# Altium footprint library SPTSquidBoardRev8.PcbLib: 11 footprints
Each footprint in its own frame and in the unit in brackets; x right, y up, seen from the top. Pads: shape width x height; smd on the part's side, far side on the other; paste and mask are expansions set on the pad; w line width, h text height; cw(c..) or ccw(c..) is an arc to the next point about the centre after c.
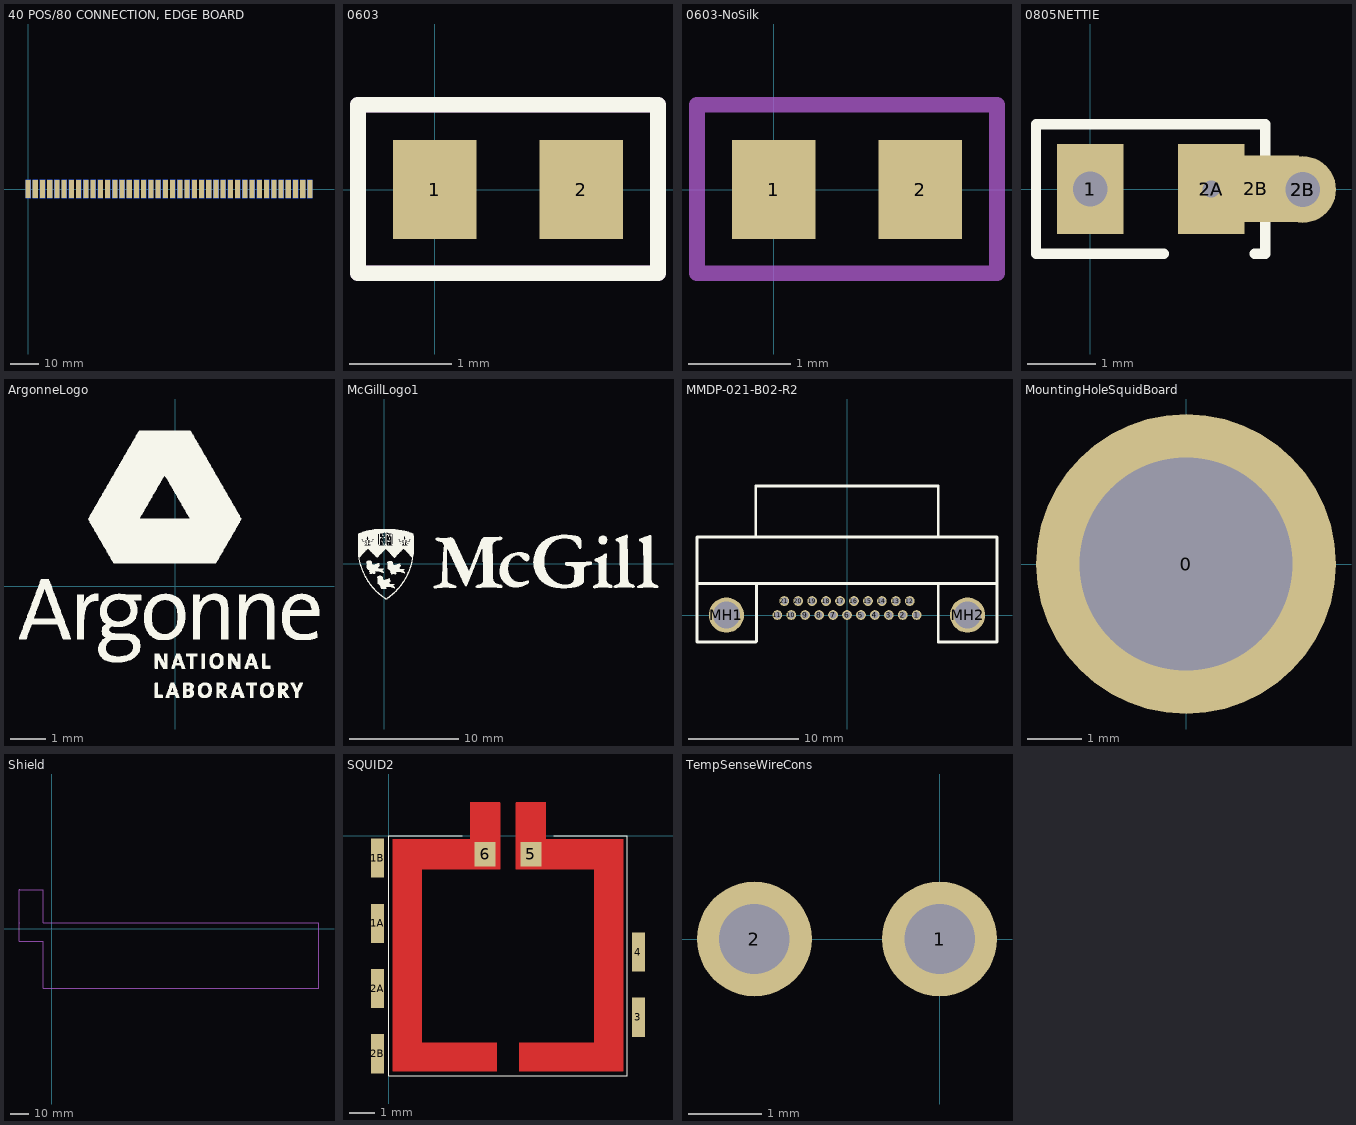
[diagram p0: the footprints below, top view; thin cyan lines are the x and y axes]

## 40 POS/80 CONNECTION, EDGE BOARD [mil]
pads (80):
  rect 70x250 smd far side paste-400: 1A(3900,0) 2A(3800,0) 3A(3700,0) 4A(3600,0) 5A(3500,0) 6A(3400,0) 7A(3300,0) 8A(3200,0) 9A(3100,0) 10A(3000,0) 11A(2900,0) 12A(2800,0) 13A(2700,0) 14A(2600,0) 15A(2500,0) 16A(2400,0) 17A(2300,0) 18A(2200,0) 19A(2100,0) 20A(2000,0) 21A(1900,0) 22A(1800,0) 23A(1700,0) 24A(1600,0) 25A(1500,0) 26A(1400,0) 27A(1300,0) 28A(1200,0) 29A(1100,0) 30A(1000,0) 31A(900,0) 32A(800,0) 33A(700,0) 34A(600,0) 35A(500,0) 36A(400,0) 37A(300,0) 38A(200,0) 39A(100,0) 40A(0,0)
  rect 70x250 smd paste-400: 1B(3900,0) 2B(3800,0) 3B(3700,0) 4B(3600,0) 5B(3500,0) 6B(3400,0) 7B(3300,0) 8B(3200,0) 9B(3100,0) 10B(3000,0) 11B(2900,0) 12B(2800,0) 13B(2700,0) 14B(2600,0) 15B(2500,0) 16B(2400,0) 17B(2300,0) 18B(2200,0) 19B(2100,0) 20B(2000,0) 21B(1900,0) 22B(1800,0) 23B(1700,0) 24B(1600,0) 25B(1500,0) 26B(1400,0) 27B(1300,0) 28B(1200,0) 29B(1100,0) 30B(1000,0) 31B(900,0) 32B(800,0) 33B(700,0) 34B(600,0) 35B(500,0) 36B(400,0) 37B(300,0) 38B(200,0) 39B(100,0) 40B(0,0)
Mechanical 1:
  text "40 POS/80 CONNECTION, EDGE BOARD" at -795,-5 h22.5

## 0603 [mil]
pads (2):
  rect 32x38 smd: 1(0,0) 2(56,0)
Top Overlay:
  lines w6: -29.5,-32 85.5,-32 85.5,32.5 -29.5,32.5 -29.5,-32
Mechanical 1:
  lines w6: -29.5,-32 85.5,-32 85.5,32.5 -29.5,32.5 -29.5,-32

## 0603-NoSilk [mil]
pads (2):
  rect 32x38 smd: 1(0,0) 2(56,0)
Mechanical 1:
  lines w6: -29.5,-32 -29.5,32.5 85.5,32.5 85.5,-32 -29.5,-32

## 0805NETTIE [mil]
pads (7):
  round 35 hole 20 paste-10 mask-10: 1(0,0) 2B(122.92,-0.3)
  rect 38.5x52 smd: 1(0,0) 2A(70,0)
  round 20 hole 10 paste-10 mask-10: 2A(70,0)
  rect 50x38.5 smd paste-19.25 mask-19.25: 2B(95.91,0.04)
  round 38.5 smd paste-19.25 mask-19.25: 2B(122.92,-0.3)
Top Overlay:
  lines w6: 42.57,-37.5 -31.25,-37.5 -31.25,37.5 101.25,37.5 101.25,-37.5 95.19,-37.5

## ArgonneLogo [mil]
height 560
Top Overlay:
  drawing of 2632 lines, arcs and shapes, not listed

## McGillLogo1 [mil] "McGillLogo"
Top Overlay:
  drawing of 2700 lines, arcs and shapes, not listed

## MMDP-021-B02-R2 [mil] "Omnetrics21pinR2Tail"
pads (23):
  round 35 hole 25: 1(250,0) 2(200,0) 3(150,0) 4(100,0) 5(50,0) 6(0,0) 7(-50,0) 8(-100,0) 9(-150,0) 10(-200,0) 11(-250,0) 12(225,50) 13(175,50) 14(125,50) 15(75,50) 16(25,50) 17(-25,50) 18(-75,50) 19(-125,50) 20(-175,50) 21(-225,50)
  round 125.98 hole 96.06: MH1(-432.5,0) MH2(432.5,0)
Top Overlay:
  lines w1: -327.5,460.5 -325,463
  lines w10: -538,113 -325,113 ; -327.5,-97 -537.5,-97 -537.5,280 ; -327.5,460.5 -327.5,280 -537.5,280 ; -327.5,463 327.5,463 ; -325,-94.5 -325,113 ; 327.5,280 327.5,460.5 ; 538,113 327.5,113 ; -537.5,280 537.5,280 537.5,-97 327.5,-97 327.5,113 ; -325,113 327.5,113

## MountingHoleSquidBoard [mil]
pads (1):
  round 217 hole 154: 0(0,0)

## Shield [mil]
height 560
pads (11):
  round 20 on Mech1: 4(-680,-270) 4(-680,120) 4(-680,820) 4(-180,-1260) 4(-180,-270) 4(-180,120) 4(0,0) 4(0,120) 4(5620,-1260) 4(5620,0) 4(5620,120)
Mechanical 1:
  lines w20: -680,-270 -680,120 -680,820 -180,820 -180,120 5620,120 5620,-1260 -180,-1260 -180,-270 -680,-270

## SQUID2 [mil]
pads (8):
  rect 20x60 smd paste-100: 1A(-17,-133.99) 1B(-17,-33.99) 2A(-17,-233.99) 2B(-17,-333.99) 3(383,-278) 4(383,-178)
  rect 32x38 smd paste-20 mask-20: 5(218,-28) 6(148,-28)
Top Layer:
  region: 125,52 170,52 171,51 171,-51 51,-51 51,-317 165.59,-317 166,-318 166,-361 6,-361 6,-5 125,-5
  region: 241,52 196,52 195,51 195,-51 315,-51 315,-317 200.41,-317 200,-318 200,-361 360,-361 360,-5 241,-5
Top Overlay:
  lines w1: 113,0 3,0 0,0 0,-3 0,-368 366,-368 366,0 253,0

## TempSenseWireCons [mil]
pads (2):
  round 62 / inner round 70 / far side round 62 hole 38 mask+5: 1(0,0) 2(-100,0)